# Altium integrated library esp32-wroom.IntLib: 2 symbols
Pins are listed as number, name and electrical type; pins without a type are passive.

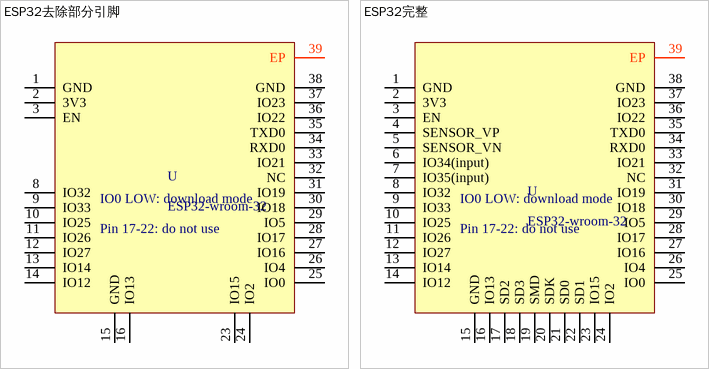
[diagram p0: symbols ESP32去除部分引脚 to ESP32完整]

## ESP32去除部分引脚
designator U, comment ESP32-wroom-32
footprint ESP32-WROOM-32_1
pins: 1 GND, 2 3V3, 3 EN, 8 IO32, 9 IO33, 10 IO25, 11 IO26, 12 IO27, 13 IO14, 14 IO12, 15 GND, 16 IO13, 23 IO15, 24 IO2, 25 IO0, 26 IO4, 27 IO16, 28 IO17, 29 IO5, 30 IO18, 31 IO19, 32 NC, 33 IO21, 34 RXD0, 35 TXD0, 36 IO22, 37 IO23, 38 GND, 39 EP
text: IO0 LOW: download mode; Pin 17-22: do not use

## ESP32完整
designator U, comment ESP32-wroom-32
footprint ESP32-WROOM-32
pins: 1 GND, 2 3V3, 3 EN, 4 SENSOR_VP, 5 SENSOR_VN, 6 IO34(input), 7 IO35(input), 8 IO32, 9 IO33, 10 IO25, 11 IO26, 12 IO27, 13 IO14, 14 IO12, 15 GND, 16 IO13, 17 SD2, 18 SD3, 19 SMD, 20 SDK, 21 SD0, 22 SD1, 23 IO15, 24 IO2, 25 IO0, 26 IO4, 27 IO16, 28 IO17, 29 IO5, 30 IO18, 31 IO19, 32 NC, 33 IO21, 34 RXD0, 35 TXD0, 36 IO22, 37 IO23, 38 GND, 39 EP
text: IO0 LOW: download mode; Pin 17-22: do not use